# Altium footprint library PCB - DIODES - SMF DO-219AB.PCBLIB: 1 footprints
Each footprint in its own frame and in the unit in brackets; x right, y up, seen from the top. Pads: shape width x height; smd on the part's side, far side on the other; paste and mask are expansions set on the pad; w line width, h text height; cw(c..) or ccw(c..) is an arc to the next point about the centre after c.
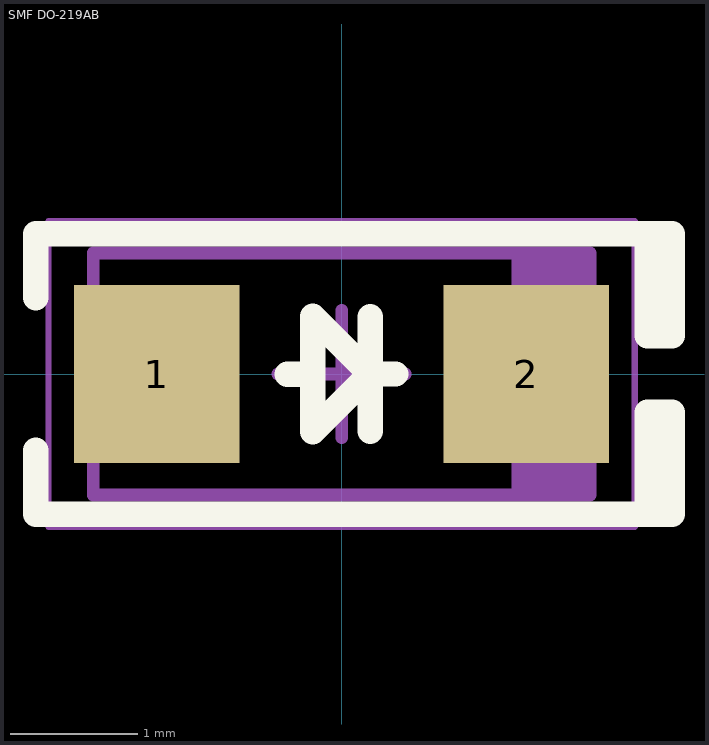
[diagram p0: the footprint, top view; thin cyan lines are the x and y axes]

## SMF DO-219AB [mm] "Molded Diode, 2-Leads, Body 3.90x1.90mm, IPC Medium Density"
height 1.1
pads (2):
  rect 1.3x1.4 smd: 1(-1.45,0) 2(1.45,0)
Top Overlay:
  lines w0.2: -2.4,-0.6 -2.4,-1.1 2.594,-1.1 2.594,-0.3 2.4,-0.3 2.4,-1.1 ; -2.4,0.6 -2.4,1.1 2.594,1.1 2.594,0.3 2.4,0.3 2.4,1.1 ; -0.429,-0.004 -0.229,-0.004 ; 0.225,-0.45 0.225,0.45 ; 0.425,0 0.225,0 ; 0.225,0 -0.229,0.454 -0.229,-0.454 0.225,0
Mechanical 13:
  rectangle: 1.331,-0.95 1.95,0.95
  lines w0.1: -1.95,-0.95 -1.95,0.95 1.95,0.95 1.95,-0.95 -1.95,-0.95
Mechanical 15:
  lines w0.05: -2.3,-1.2 2.3,-1.2 2.3,1.2 -2.3,1.2 -2.3,-1.2
Mechanical 2 (Mech9):
  lines w0.1: -0.5,0 0.5,0 ; 0,-0.5 0,0.5
3D body "Vishay - SMF.step": height 1.18, standoff 0, extent -1.5,-0.898 1.5,0.898